# Altium footprint library ATO Fuse Holder.PcbLib: 1 footprints
Each footprint in its own frame and in the unit in brackets; x right, y up, seen from the top. Pads: shape width x height; smd on the part's side, far side on the other; paste and mask are expansions set on the pad; w line width, h text height; cw(c..) or ccw(c..) is an arc to the next point about the centre after c.
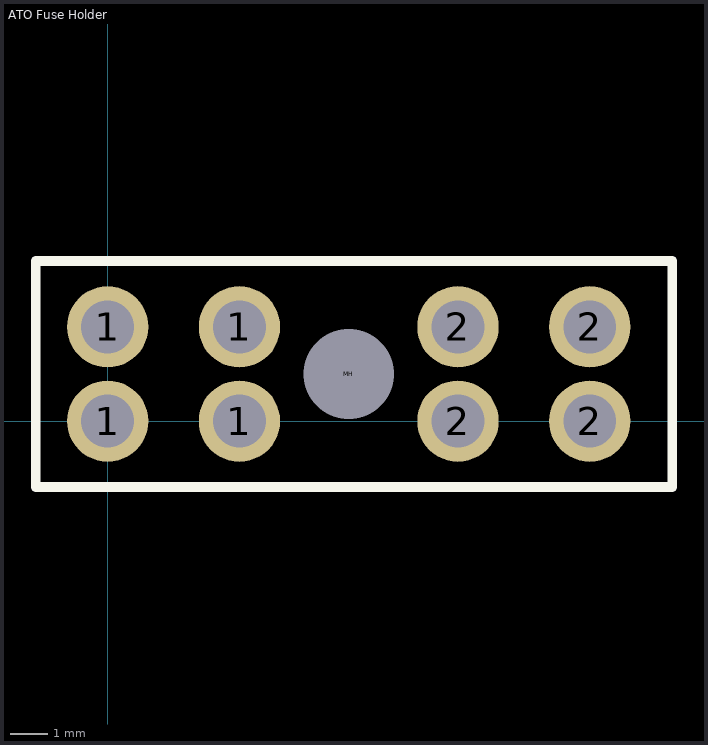
[diagram p0: the footprint, top view; thin cyan lines are the x and y axes]

## ATO Fuse Holder [mm]
height 17.501
pads (9):
  round 2.159 hole 1.4: 1(0,0) 1(0,2.5) 1(3.5,0) 1(3.5,2.5) 2(9.3,0) 2(9.3,2.5) 2(12.8,0) 2(12.8,2.5)
  round 0.254 hole 2.4 unplated: MH(6.4,1.25)
Top Overlay:
  lines w0.254: -1.905,-1.75 14.986,-1.75 14.986,4.25 -1.905,4.25 -1.905,-1.75